# Altium footprint library BD33HC5WEFJ-E2.PcbLib: 3 footprints
Each footprint in its own frame and in the unit in brackets; x right, y up, seen from the top. Pads: shape width x height; smd on the part's side, far side on the other; paste and mask are expansions set on the pad; w line width, h text height; cw(c..) or ccw(c..) is an arc to the next point about the centre after c.
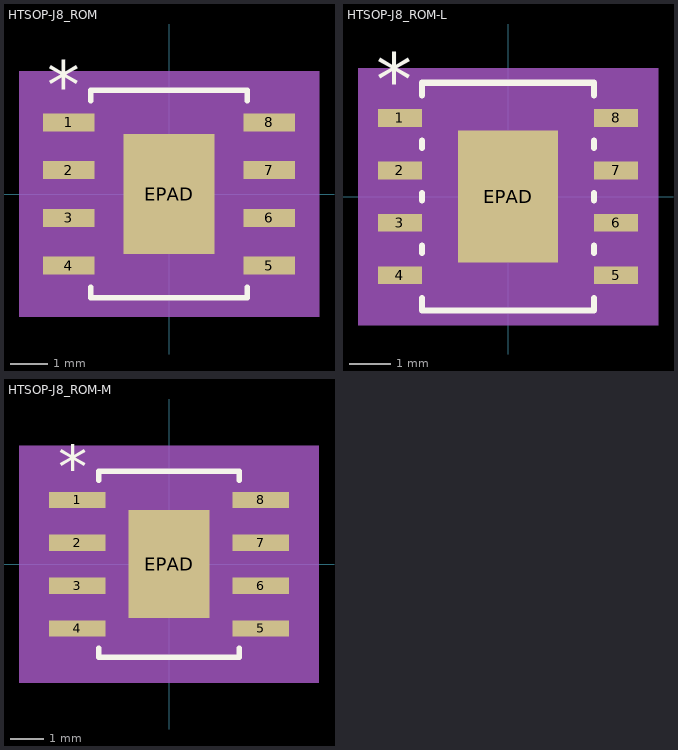
[diagram p0: the footprints below, top view; thin cyan lines are the x and y axes]

## HTSOP-J8_ROM [mil]
pads (9):
  rect 54x19 smd paste+0 mask+0: 1(-105,75) 2(-105,25) 3(-105,-25) 4(-105,-75) 5(105,-75) 6(105,-25) 7(105,25) 8(105,75)
  rect 95x126 smd paste-62.5 mask+0: EPAD(0,0)
Top Overlay:
  lines w6: -82,-97.6 -82,-108.5 82,-108.5 82,-97.6 ; -82,97.6 -82,108.5 82,108.5 82,97.6
  text "*" at -127.5,89 h50
Top Paste:
  region: 43.56,59.06 -43.56,59.06 -43.56,3.94 43.56,3.94
  region: 43.56,-3.94 -43.56,-3.94 -43.56,-59.06 43.56,-59.06
Mechanical 5:
  region: 157,-128.5 -157,-128.5 -157,128.5 157,128.5
Mechanical 13:
  lines w0: -12,103.5 ccw(c0,103.5) 12,103.5
  lines w1: -118,-83.5 -118,-66.5 -77,-66.5 -77,-83.5 -118,-83.5 ; -118,-33.5 -118,-16.5 -77,-16.5 -77,-33.5 -118,-33.5 ; -118,16.5 -118,33.5 -77,33.5 -77,16.5 -118,16.5 ; -118,66.5 -118,83.5 -77,83.5 -77,66.5 -118,66.5 ; -77,-103.5 77,-103.5 77,103.5 -77,103.5 -77,-103.5 ; 77,-83.5 77,-66.5 118,-66.5 118,-83.5 77,-83.5 ; 77,-33.5 77,-16.5 118,-16.5 118,-33.5 77,-33.5 ; 77,16.5 77,33.5 118,33.5 118,16.5 77,16.5 ; 77,66.5 77,83.5 118,83.5 118,66.5 77,66.5
  text "*" at -74.5,50.5 h50
Mechanical 15:
  region: -87,-94.5 -142,-94.5 -142,94.5 -87,94.5 -87,113.5 87,113.5 87,94.5 142,94.5 142,-94.5 87,-94.5 87,-113.5 -87,-113.5
  lines w6: -142,-94.5 -142,94.5 -87,94.5 -87,113.5 87,113.5 87,94.5 142,94.5 142,-94.5 87,-94.5 87,-113.5 -87,-113.5 -87,-94.5 -142,-94.5
3D body "HTSOP-J8_ROM.step": height 39.09, standoff 0, extent -117.99,-103.5 117.99,103.5

## HTSOP-J8_ROM-L [mil]
pads (9):
  rect 42x17 smd paste+0 mask+0: 1(-103,75) 2(-103,25) 3(-103,-25) 4(-103,-75) 5(103,-75) 6(103,-25) 7(103,25) 8(103,75)
  rect 95x126 smd paste-62.5 mask+0: EPAD(0,0)
Top Overlay:
  lines w6: -82,-96.6 -82,-108.5 82,-108.5 82,-96.6 ; -82,-53.4 -82,-46.6 ; -82,-3.4 -82,3.4 ; -82,46.6 -82,53.4 ; -82,96.6 -82,108.5 82,108.5 82,96.6 ; 82,-53.4 82,-46.6 ; 82,-3.4 82,3.4 ; 82,46.6 82,53.4
  text "*" at -125.5,87 h50
Top Paste:
  region: 43.56,59.06 -43.56,59.06 -43.56,3.94 43.56,3.94
  region: 43.56,-3.94 -43.56,-3.94 -43.56,-59.06 43.56,-59.06
Mechanical 5:
  region: 143,-122.5 -143,-122.5 -143,122.5 143,122.5
Mechanical 13:
  lines w0: -12,103.5 ccw(c0,103.5) 12,103.5
  lines w1: -118,-83.5 -118,-66.5 -77,-66.5 -77,-83.5 -118,-83.5 ; -118,-33.5 -118,-16.5 -77,-16.5 -77,-33.5 -118,-33.5 ; -118,16.5 -118,33.5 -77,33.5 -77,16.5 -118,16.5 ; -118,66.5 -118,83.5 -77,83.5 -77,66.5 -118,66.5 ; -77,-103.5 77,-103.5 77,103.5 -77,103.5 -77,-103.5 ; 77,-83.5 77,-66.5 118,-66.5 118,-83.5 77,-83.5 ; 77,-33.5 77,-16.5 118,-16.5 118,-33.5 77,-33.5 ; 77,16.5 77,33.5 118,33.5 118,16.5 77,16.5 ; 77,66.5 77,83.5 118,83.5 118,66.5 77,66.5
  text "*" at -74.5,50.5 h50
Mechanical 15:
  region: -81,-87.5 -128,-87.5 -128,87.5 -81,87.5 -81,107.5 81,107.5 81,87.5 128,87.5 128,-87.5 81,-87.5 81,-107.5 -81,-107.5
  lines w6: -128,-87.5 -128,87.5 -81,87.5 -81,107.5 81,107.5 81,87.5 128,87.5 128,-87.5 81,-87.5 81,-107.5 -81,-107.5 -81,-87.5 -128,-87.5
3D body "HTSOP-J8_ROM.step": height 39.09, standoff 0, extent -117.99,-103.5 117.99,103.5

## HTSOP-J8_ROM-M [mil]
pads (9):
  rect 66x19 smd paste+0 mask+0: 1(-107,75) 2(-107,25) 3(-107,-25) 4(-107,-75) 5(107,-75) 6(107,-25) 7(107,25) 8(107,75)
  rect 95x126 smd paste-62.5 mask+0: EPAD(0,0)
Top Overlay:
  lines w6: -82,-97.6 -82,-108.5 82,-108.5 82,-97.6 ; -82,97.6 -82,108.5 82,108.5 82,97.6
  text "*" at -129.5,89 h50
Top Paste:
  region: 43.56,59.06 -43.56,59.06 -43.56,3.94 43.56,3.94
  region: 43.56,-3.94 -43.56,-3.94 -43.56,-59.06 43.56,-59.06
Mechanical 5:
  region: 175,-138.5 -175,-138.5 -175,138.5 175,138.5
Mechanical 13:
  lines w0: -12,103.5 ccw(c0,103.5) 12,103.5
  lines w1: -118,-83.5 -118,-66.5 -77,-66.5 -77,-83.5 -118,-83.5 ; -118,-33.5 -118,-16.5 -77,-16.5 -77,-33.5 -118,-33.5 ; -118,16.5 -118,33.5 -77,33.5 -77,16.5 -118,16.5 ; -118,66.5 -118,83.5 -77,83.5 -77,66.5 -118,66.5 ; -77,-103.5 77,-103.5 77,103.5 -77,103.5 -77,-103.5 ; 77,-83.5 77,-66.5 118,-66.5 118,-83.5 77,-83.5 ; 77,-33.5 77,-16.5 118,-16.5 118,-33.5 77,-33.5 ; 77,16.5 77,33.5 118,33.5 118,16.5 77,16.5 ; 77,66.5 77,83.5 118,83.5 118,66.5 77,66.5
  text "*" at -74.5,50.5 h50
Mechanical 15:
  region: -97,-104.5 -160,-104.5 -160,104.5 -97,104.5 -97,123.5 97,123.5 97,104.5 160,104.5 160,-104.5 97,-104.5 97,-123.5 -97,-123.5
  lines w6: -160,-104.5 -160,104.5 -97,104.5 -97,123.5 97,123.5 97,104.5 160,104.5 160,-104.5 97,-104.5 97,-123.5 -97,-123.5 -97,-104.5 -160,-104.5
3D body "HTSOP-J8_ROM.step": height 39.09, standoff 0, extent -117.99,-103.5 117.99,103.5